# Altium schematic symbol library MMBT3904T.SchLib: 1 symbol
Pins are listed as number, name and electrical type; pins without a type are passive.

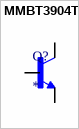
[diagram p0: symbol MMBT3904T]

## MMBT3904T
designator Q?
Ð‘Ð¸Ð¿Ð¾Ð»ÑÑ€Ð½Ñ‹Ð¹ (BJT) Ñ‚Ñ€Ð°Ð½Ð·Ð¸ÑÑ‚Ð¾Ñ€ NPN 40 Ð’ 200 Ð¼Ð 300 ÐœÐ“Ñ† 300 Ð¼Ð’Ñ‚ Ð´Ð»Ñ Ð¿Ð¾Ð²ÐµÑ€Ñ…Ð½Ð¾ÑÑ‚Ð½Ð¾Ð³Ð¾ Ð¼Ð¾Ð½Ñ‚Ð°Ð¶Ð° SOT-23-3 (TO-236); MF: ON Semiconductor; MP: MMBT3904; SnapEDA_Link: https://www.snapeda.com/parts/MMBT3904/Onsemi/view-part/?ref=snap; Package: SOT-23-3 Motorola; Value: *; Check_prices: https://www.snapeda.com/parts/MMBT3904/Onsemi/view-part/?ref=eda
footprint SOT50P160X78-3N
pins: 1 B, 2 E, 3 C